# Altium schematic symbol library SpritePin.SCHLIB: 1 symbol
Pins are listed as number, name and electrical type; pins without a type are passive.

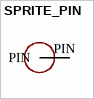
[diagram p0: symbol SPRITE_PIN]

## SPRITE_PIN
designator ?
footprint SPRITE_PIN
pins: PIN